# Altium schematic symbol library CRCW1210470RJNEA.SchLib: 1 symbol
Pins are listed as number, name and electrical type; pins without a type are passive.

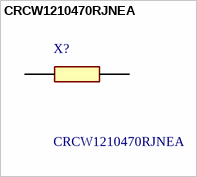
[diagram p0: symbol CRCW1210470RJNEA]

## CRCW1210470RJNEA
designator X?
Thick Film Resistors - SMD 1/2watt 470ohms 5%; Manufacturer_Name: Vishay; Geometry.Height: 0.6mm; Manufacturer_Part_Number: CRCW1210470RJNEA; Mouser Part Number: 71-CRCW1210J-470-E3; Mouser Price/Stock: https://www.mouser.com/Search/Refine.aspx?Keyword=71-CRCW1210J-470-E3; Arrow Part Number: *; Arrow Price/Stock: *; Datasheet Link: *
footprint RESC3225X60N
pins: 1, 2